# EAGLE library part LPY5150AL (library kwoo)
MEMS motion sensor: dual-axis pitch and yaw +/- 1500 deg./s analog output gyroscope
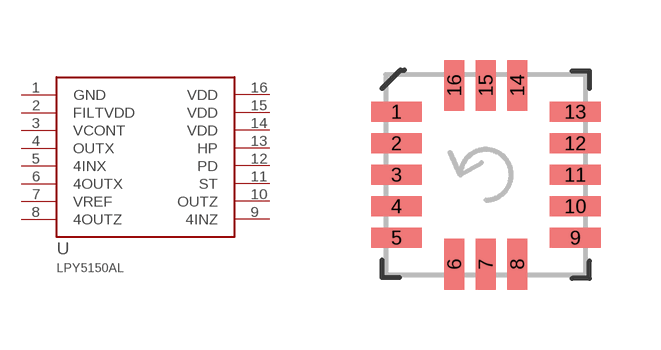
[diagram p50: symbol with the pads of LGA16; footprint LGA16]

Designator prefix -

## LPY5150AL  [LGA16]
1  GND  pwr
2  FILTVDD
3  VCONT
4  OUTX
5  4INX
6  4OUTX
7  VREF
8  4OUTZ
9  4INZ
10  OUTZ
11  ST
12  PD
13  HP
14  VDD  pwr
15  VDD  pwr
16  VDD  pwr

## Footprint LGA16 (pad centres in mm)
LGA16 for LPY5150AL
smd 1.27 x 0.508: 1 -2.235,1.575; 2 -2.235,0.787; 3 -2.235,0; 4 -2.235,-0.787; 5 -2.235,-1.575; 9 2.235,-1.575; 10 2.235,-0.787; 11 2.235,0; 12 2.235,0.787; 13 2.235,1.575
smd 0.508 x 1.27: 6 -0.787,-2.235; 7 0,-2.235; 8 0.787,-2.235; 14 0.787,2.235; 15 0,2.235; 16 -0.787,2.235